# Altium schematic symbol library BSS138LT3G.SchLib: 2 symbols
Pins are listed as number, name and electrical type; pins without a type are passive.

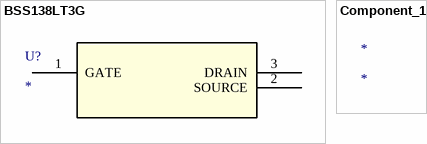
[diagram p0: symbols BSS138LT3G to Component_1]

## BSS138LT3G
designator U?
No Description Available; Mfr_Name: onsemi; RefDes: RefDes; Type: Type
footprint SOT-23-3_1P4X3P040_ONS
pins: 1 GATE, 2 SOURCE, 3 DRAIN

## Component_1
designator *